# Altium integrated library airu-board.IntLib: 156 symbols (part 3 of 3)
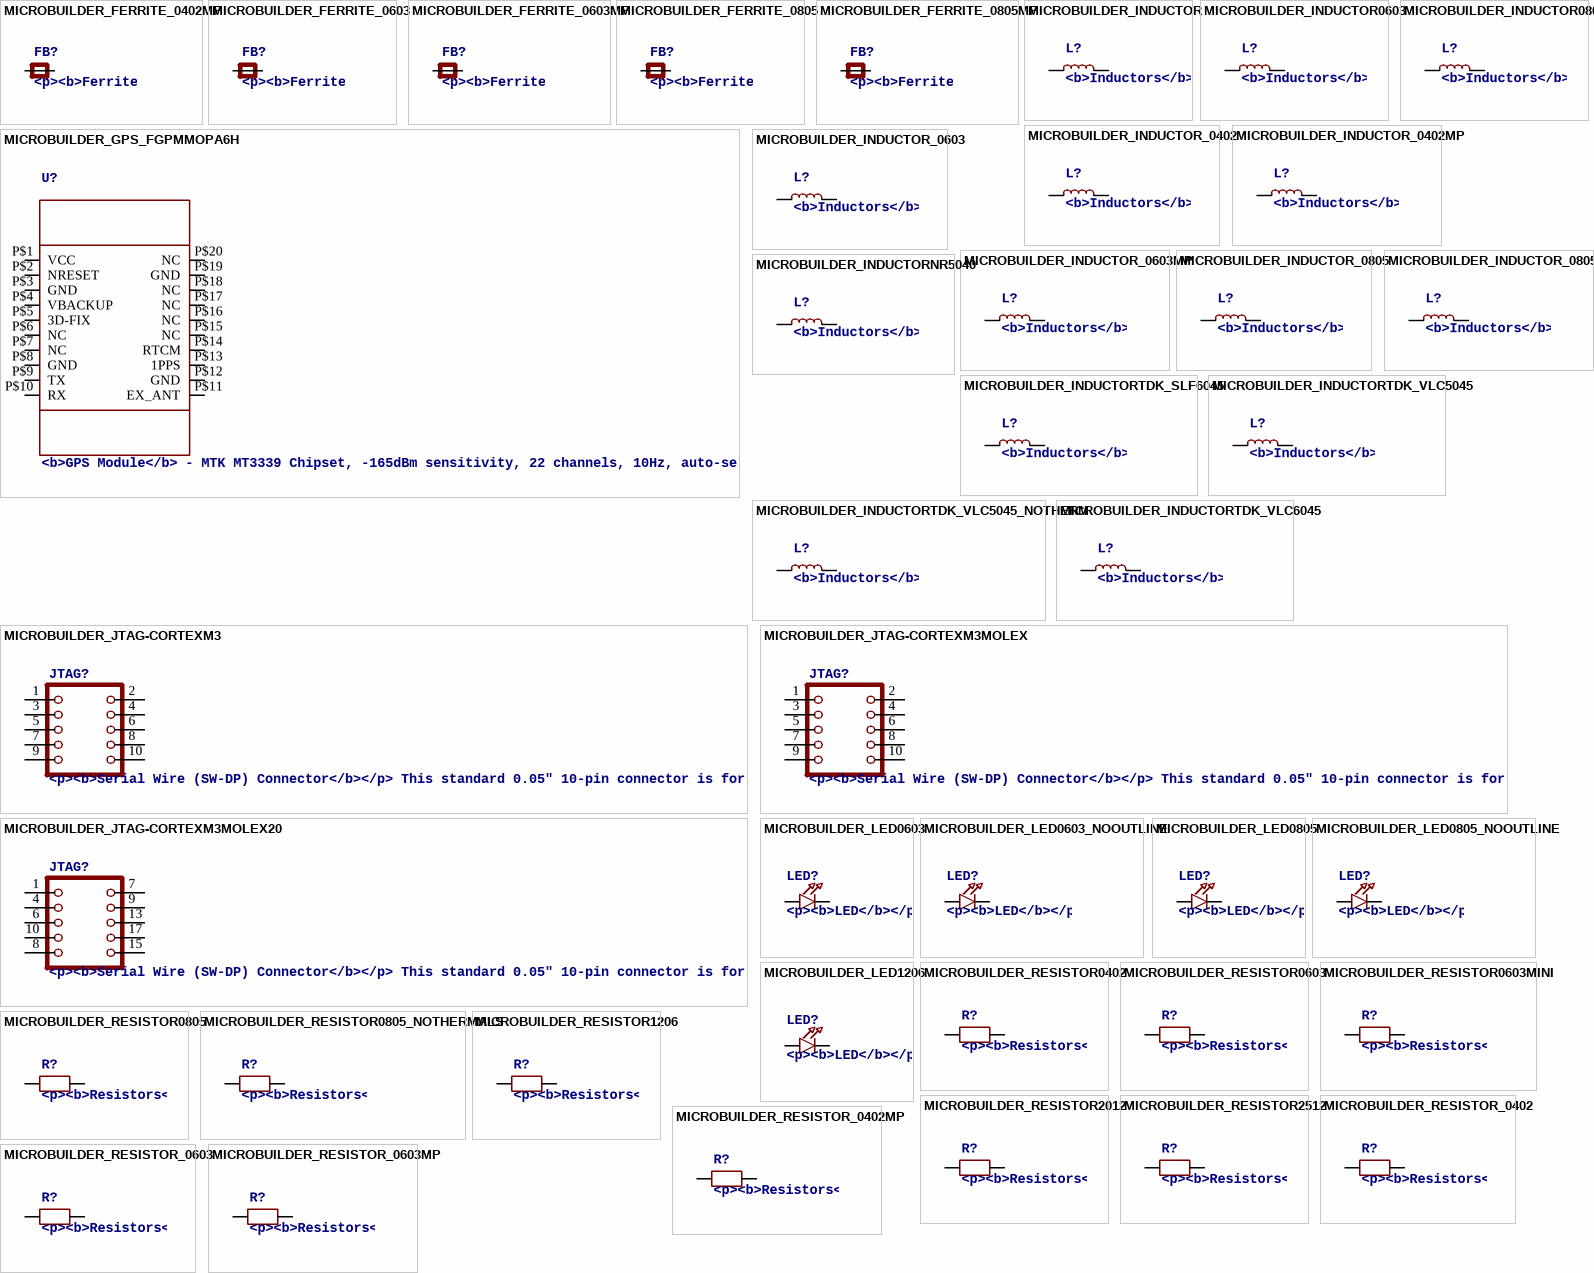
[diagram p7: symbols MICROBUILDER_FERRITE_0402MP to MICROBUILDER_RESISTOR_0603MP]

## MICROBUILDER_RESISTOR_0402MP
designator R?, comment <p><b>Resistors</b></p> / <b>0402</b> - 0402 Surface Mount Package / <ul> / <li>22 Ohm 1% 1/16W [Digikey: 311-22.0LRTR-ND]</li> / <li>33 Ohm 5% 1/16W</li> / <li>1.0K 5% 1/16W</li> / <li>1.5K 5% 1/16W</li> / <li>2.0K 1% 1/16W</li> / <li>10.0K 1% 1/16W [Digikey: 311-10.0KLRTR-ND]</li> / <li>10.0K 5% 1/16W [Digikey: RMCF0402JT10K0TR-ND]</li> / <li>12.1K 1% 1/16W [Digikey: 311-22.0LRTR-ND]</li> / <li>100.0K 5% 1/16W</li> / </ul> / <b>0603</b> - 0603 Surface Mount Package<br> / <ul> / <li>0 Ohm 1/10 Watt 1% Resistor</li> / <li>15 Ohm 1/10 Watt 1% Resistor</li> / <li>33 Ohm 1/10 Watt 1% Resistor</li> / <li>49.9 Ohm 1/10 Watt 1% Resistor</li> / <li>100 Ohm 1/10 Watt 1% Resistor</li> / <li>150 Ohm 1/10 Watt 1% Resistor</li> / <li>240 Ohm 1/10 Watt 1% Resistor</li> / <li>390 Ohm 1/10 Watt 1% Resistor</li> / <li>560 Ohm 1/10 Watt 1% Resistor</li> / <li>680 Ohm 1/10 Watt 1% Resistor</li> / <li>750 Ohm 1/10 Watt 1% Resistor</li> / <li>1.0K Ohm 1/10 Watt 1% Resistor</li> / <li>1.5K Ohm 1/10 Watt 1% Resistor</li> / <li>2.0K Ohm 1/10 Watt 1% Resistor</li> / <li>2.2K Ohm 1/10 Watt 1% Resistor</li> / <li>3.3K Ohm 1/10 Watt 1% Resistor</li> / <li>4.7K Ohm 1/10 Watt 1% Resistor</li> / <li>10.0K Ohm 1/10 Watt 1% Resistor</li> / <li>12.0K Ohm 1/10 Watt 1% Resistor</li> / <li>12.1K Ohm 1/10 Watt 1% Resistor</li> / <li>20.0K Ohm 1/10 Watt 1% Resistor</li> / <li>33.0K Ohm 1/10 Watt 1% Resistor</li> / <li>100.0K Ohm 1/10 Watt 1% Resistor</li> / </ul> / <b>0805</b> - 0805 Surface Mount Package / <ul> / <li>0 Ohm 1/8 Watt 1% Resistor</li> / <li>33 Ohm 1/8 Watt 1% Resistor</li> / <li>100 Ohm 1/8 Watt 1% Resistor</li> / <li>150 Ohm 1/8 Watt 1% Resistor</li> / <li>200 Ohm 1/8 Watt 1% Resistor</li> / <li>240 Ohm 1/8 Watt 1% Resistor</li> / <li>330 Ohm 1/8 Watt 1% Resistor</li> / <li>390 Ohm 1/8 Watt 1% Resistor</li> / <li>470 Ohm 1/8 Watt 1% Resistor</li> / <li>1.0K Ohm 1/8 Watt 1% Resistor</li> / <li>1.5K Ohm 1/8 Watt 1% Resistor</li> / <li>2.0K Ohm 1/8 Watt 1% Resistor</li> / <li>4.7K Ohm 1/8 Watt 1% Resistor</li> / <li>5.1K Ohm 1/8 Watt 1% Resistor</li> / <li>5.6K Ohm 1/8 Watt 1% Resistor</li> / <li>10.0K Ohm 1/8 Watt 1% Resistor</li> / <li>22.0K Ohm 1/8 Watt 1% Resistor</li> / <li>33.0K Ohm 1/8 Watt 1% Resistor</li> / <li>100K Ohm 1/8 Watt 1% Resistor</li> / </ul> / <b>1206</b> - 1206 Surface Mount Package<br/> / <br/> / <b>2012</b> - 2010 Surface Mount Package<br/> / <ul><li>0.11 Ohm 1/2 Watt 1% Resistor - Digikey: RHM.11UCT-ND</li></ul>
footprint MICROBUILDER__0402MP
pins: 1, 2

## MICROBUILDER_RESISTOR_0603
designator R?, comment <p><b>Resistors</b></p> / <b>0402</b> - 0402 Surface Mount Package / <ul> / <li>22 Ohm 1% 1/16W [Digikey: 311-22.0LRTR-ND]</li> / <li>33 Ohm 5% 1/16W</li> / <li>1.0K 5% 1/16W</li> / <li>1.5K 5% 1/16W</li> / <li>2.0K 1% 1/16W</li> / <li>10.0K 1% 1/16W [Digikey: 311-10.0KLRTR-ND]</li> / <li>10.0K 5% 1/16W [Digikey: RMCF0402JT10K0TR-ND]</li> / <li>12.1K 1% 1/16W [Digikey: 311-22.0LRTR-ND]</li> / <li>100.0K 5% 1/16W</li> / </ul> / <b>0603</b> - 0603 Surface Mount Package<br> / <ul> / <li>0 Ohm 1/10 Watt 1% Resistor</li> / <li>15 Ohm 1/10 Watt 1% Resistor</li> / <li>33 Ohm 1/10 Watt 1% Resistor</li> / <li>49.9 Ohm 1/10 Watt 1% Resistor</li> / <li>100 Ohm 1/10 Watt 1% Resistor</li> / <li>150 Ohm 1/10 Watt 1% Resistor</li> / <li>240 Ohm 1/10 Watt 1% Resistor</li> / <li>390 Ohm 1/10 Watt 1% Resistor</li> / <li>560 Ohm 1/10 Watt 1% Resistor</li> / <li>680 Ohm 1/10 Watt 1% Resistor</li> / <li>750 Ohm 1/10 Watt 1% Resistor</li> / <li>1.0K Ohm 1/10 Watt 1% Resistor</li> / <li>1.5K Ohm 1/10 Watt 1% Resistor</li> / <li>2.0K Ohm 1/10 Watt 1% Resistor</li> / <li>2.2K Ohm 1/10 Watt 1% Resistor</li> / <li>3.3K Ohm 1/10 Watt 1% Resistor</li> / <li>4.7K Ohm 1/10 Watt 1% Resistor</li> / <li>10.0K Ohm 1/10 Watt 1% Resistor</li> / <li>12.0K Ohm 1/10 Watt 1% Resistor</li> / <li>12.1K Ohm 1/10 Watt 1% Resistor</li> / <li>20.0K Ohm 1/10 Watt 1% Resistor</li> / <li>33.0K Ohm 1/10 Watt 1% Resistor</li> / <li>100.0K Ohm 1/10 Watt 1% Resistor</li> / </ul> / <b>0805</b> - 0805 Surface Mount Package / <ul> / <li>0 Ohm 1/8 Watt 1% Resistor</li> / <li>33 Ohm 1/8 Watt 1% Resistor</li> / <li>100 Ohm 1/8 Watt 1% Resistor</li> / <li>150 Ohm 1/8 Watt 1% Resistor</li> / <li>200 Ohm 1/8 Watt 1% Resistor</li> / <li>240 Ohm 1/8 Watt 1% Resistor</li> / <li>330 Ohm 1/8 Watt 1% Resistor</li> / <li>390 Ohm 1/8 Watt 1% Resistor</li> / <li>470 Ohm 1/8 Watt 1% Resistor</li> / <li>1.0K Ohm 1/8 Watt 1% Resistor</li> / <li>1.5K Ohm 1/8 Watt 1% Resistor</li> / <li>2.0K Ohm 1/8 Watt 1% Resistor</li> / <li>4.7K Ohm 1/8 Watt 1% Resistor</li> / <li>5.1K Ohm 1/8 Watt 1% Resistor</li> / <li>5.6K Ohm 1/8 Watt 1% Resistor</li> / <li>10.0K Ohm 1/8 Watt 1% Resistor</li> / <li>22.0K Ohm 1/8 Watt 1% Resistor</li> / <li>33.0K Ohm 1/8 Watt 1% Resistor</li> / <li>100K Ohm 1/8 Watt 1% Resistor</li> / </ul> / <b>1206</b> - 1206 Surface Mount Package<br/> / <br/> / <b>2012</b> - 2010 Surface Mount Package<br/> / <ul><li>0.11 Ohm 1/2 Watt 1% Resistor - Digikey: RHM.11UCT-ND</li></ul>
footprint MICROBUILDER__0603
pins: 1, 2

## MICROBUILDER_RESISTOR_0603MP
designator R?, comment <p><b>Resistors</b></p> / <b>0402</b> - 0402 Surface Mount Package / <ul> / <li>22 Ohm 1% 1/16W [Digikey: 311-22.0LRTR-ND]</li> / <li>33 Ohm 5% 1/16W</li> / <li>1.0K 5% 1/16W</li> / <li>1.5K 5% 1/16W</li> / <li>2.0K 1% 1/16W</li> / <li>10.0K 1% 1/16W [Digikey: 311-10.0KLRTR-ND]</li> / <li>10.0K 5% 1/16W [Digikey: RMCF0402JT10K0TR-ND]</li> / <li>12.1K 1% 1/16W [Digikey: 311-22.0LRTR-ND]</li> / <li>100.0K 5% 1/16W</li> / </ul> / <b>0603</b> - 0603 Surface Mount Package<br> / <ul> / <li>0 Ohm 1/10 Watt 1% Resistor</li> / <li>15 Ohm 1/10 Watt 1% Resistor</li> / <li>33 Ohm 1/10 Watt 1% Resistor</li> / <li>49.9 Ohm 1/10 Watt 1% Resistor</li> / <li>100 Ohm 1/10 Watt 1% Resistor</li> / <li>150 Ohm 1/10 Watt 1% Resistor</li> / <li>240 Ohm 1/10 Watt 1% Resistor</li> / <li>390 Ohm 1/10 Watt 1% Resistor</li> / <li>560 Ohm 1/10 Watt 1% Resistor</li> / <li>680 Ohm 1/10 Watt 1% Resistor</li> / <li>750 Ohm 1/10 Watt 1% Resistor</li> / <li>1.0K Ohm 1/10 Watt 1% Resistor</li> / <li>1.5K Ohm 1/10 Watt 1% Resistor</li> / <li>2.0K Ohm 1/10 Watt 1% Resistor</li> / <li>2.2K Ohm 1/10 Watt 1% Resistor</li> / <li>3.3K Ohm 1/10 Watt 1% Resistor</li> / <li>4.7K Ohm 1/10 Watt 1% Resistor</li> / <li>10.0K Ohm 1/10 Watt 1% Resistor</li> / <li>12.0K Ohm 1/10 Watt 1% Resistor</li> / <li>12.1K Ohm 1/10 Watt 1% Resistor</li> / <li>20.0K Ohm 1/10 Watt 1% Resistor</li> / <li>33.0K Ohm 1/10 Watt 1% Resistor</li> / <li>100.0K Ohm 1/10 Watt 1% Resistor</li> / </ul> / <b>0805</b> - 0805 Surface Mount Package / <ul> / <li>0 Ohm 1/8 Watt 1% Resistor</li> / <li>33 Ohm 1/8 Watt 1% Resistor</li> / <li>100 Ohm 1/8 Watt 1% Resistor</li> / <li>150 Ohm 1/8 Watt 1% Resistor</li> / <li>200 Ohm 1/8 Watt 1% Resistor</li> / <li>240 Ohm 1/8 Watt 1% Resistor</li> / <li>330 Ohm 1/8 Watt 1% Resistor</li> / <li>390 Ohm 1/8 Watt 1% Resistor</li> / <li>470 Ohm 1/8 Watt 1% Resistor</li> / <li>1.0K Ohm 1/8 Watt 1% Resistor</li> / <li>1.5K Ohm 1/8 Watt 1% Resistor</li> / <li>2.0K Ohm 1/8 Watt 1% Resistor</li> / <li>4.7K Ohm 1/8 Watt 1% Resistor</li> / <li>5.1K Ohm 1/8 Watt 1% Resistor</li> / <li>5.6K Ohm 1/8 Watt 1% Resistor</li> / <li>10.0K Ohm 1/8 Watt 1% Resistor</li> / <li>22.0K Ohm 1/8 Watt 1% Resistor</li> / <li>33.0K Ohm 1/8 Watt 1% Resistor</li> / <li>100K Ohm 1/8 Watt 1% Resistor</li> / </ul> / <b>1206</b> - 1206 Surface Mount Package<br/> / <br/> / <b>2012</b> - 2010 Surface Mount Package<br/> / <ul><li>0.11 Ohm 1/2 Watt 1% Resistor - Digikey: RHM.11UCT-ND</li></ul>
footprint MICROBUILDER__0603MP
pins: 1, 2

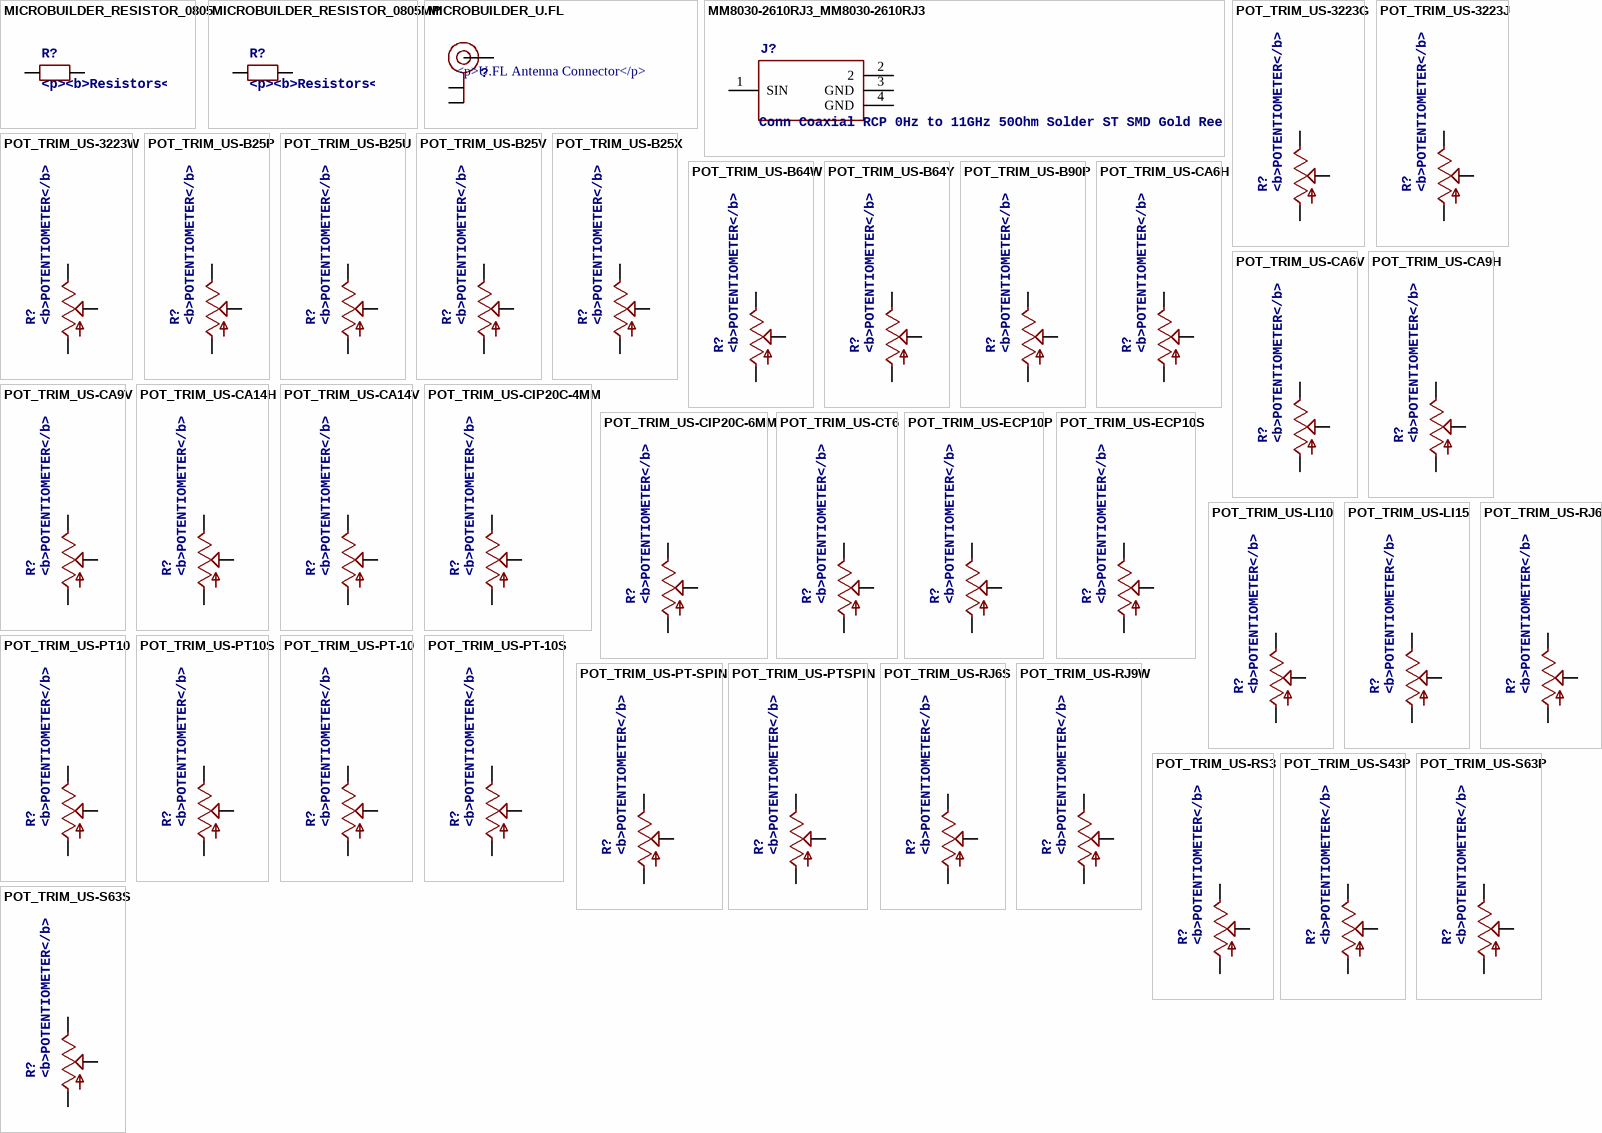
[diagram p3: symbols MICROBUILDER_RESISTOR_0805 to POT_TRIM_US-S63S]

## MICROBUILDER_RESISTOR_0805
designator R?, comment <p><b>Resistors</b></p> / <b>0402</b> - 0402 Surface Mount Package / <ul> / <li>22 Ohm 1% 1/16W [Digikey: 311-22.0LRTR-ND]</li> / <li>33 Ohm 5% 1/16W</li> / <li>1.0K 5% 1/16W</li> / <li>1.5K 5% 1/16W</li> / <li>2.0K 1% 1/16W</li> / <li>10.0K 1% 1/16W [Digikey: 311-10.0KLRTR-ND]</li> / <li>10.0K 5% 1/16W [Digikey: RMCF0402JT10K0TR-ND]</li> / <li>12.1K 1% 1/16W [Digikey: 311-22.0LRTR-ND]</li> / <li>100.0K 5% 1/16W</li> / </ul> / <b>0603</b> - 0603 Surface Mount Package<br> / <ul> / <li>0 Ohm 1/10 Watt 1% Resistor</li> / <li>15 Ohm 1/10 Watt 1% Resistor</li> / <li>33 Ohm 1/10 Watt 1% Resistor</li> / <li>49.9 Ohm 1/10 Watt 1% Resistor</li> / <li>100 Ohm 1/10 Watt 1% Resistor</li> / <li>150 Ohm 1/10 Watt 1% Resistor</li> / <li>240 Ohm 1/10 Watt 1% Resistor</li> / <li>390 Ohm 1/10 Watt 1% Resistor</li> / <li>560 Ohm 1/10 Watt 1% Resistor</li> / <li>680 Ohm 1/10 Watt 1% Resistor</li> / <li>750 Ohm 1/10 Watt 1% Resistor</li> / <li>1.0K Ohm 1/10 Watt 1% Resistor</li> / <li>1.5K Ohm 1/10 Watt 1% Resistor</li> / <li>2.0K Ohm 1/10 Watt 1% Resistor</li> / <li>2.2K Ohm 1/10 Watt 1% Resistor</li> / <li>3.3K Ohm 1/10 Watt 1% Resistor</li> / <li>4.7K Ohm 1/10 Watt 1% Resistor</li> / <li>10.0K Ohm 1/10 Watt 1% Resistor</li> / <li>12.0K Ohm 1/10 Watt 1% Resistor</li> / <li>12.1K Ohm 1/10 Watt 1% Resistor</li> / <li>20.0K Ohm 1/10 Watt 1% Resistor</li> / <li>33.0K Ohm 1/10 Watt 1% Resistor</li> / <li>100.0K Ohm 1/10 Watt 1% Resistor</li> / </ul> / <b>0805</b> - 0805 Surface Mount Package / <ul> / <li>0 Ohm 1/8 Watt 1% Resistor</li> / <li>33 Ohm 1/8 Watt 1% Resistor</li> / <li>100 Ohm 1/8 Watt 1% Resistor</li> / <li>150 Ohm 1/8 Watt 1% Resistor</li> / <li>200 Ohm 1/8 Watt 1% Resistor</li> / <li>240 Ohm 1/8 Watt 1% Resistor</li> / <li>330 Ohm 1/8 Watt 1% Resistor</li> / <li>390 Ohm 1/8 Watt 1% Resistor</li> / <li>470 Ohm 1/8 Watt 1% Resistor</li> / <li>1.0K Ohm 1/8 Watt 1% Resistor</li> / <li>1.5K Ohm 1/8 Watt 1% Resistor</li> / <li>2.0K Ohm 1/8 Watt 1% Resistor</li> / <li>4.7K Ohm 1/8 Watt 1% Resistor</li> / <li>5.1K Ohm 1/8 Watt 1% Resistor</li> / <li>5.6K Ohm 1/8 Watt 1% Resistor</li> / <li>10.0K Ohm 1/8 Watt 1% Resistor</li> / <li>22.0K Ohm 1/8 Watt 1% Resistor</li> / <li>33.0K Ohm 1/8 Watt 1% Resistor</li> / <li>100K Ohm 1/8 Watt 1% Resistor</li> / </ul> / <b>1206</b> - 1206 Surface Mount Package<br/> / <br/> / <b>2012</b> - 2010 Surface Mount Package<br/> / <ul><li>0.11 Ohm 1/2 Watt 1% Resistor - Digikey: RHM.11UCT-ND</li></ul>
footprint MICROBUILDER__0805
pins: 1, 2

## MICROBUILDER_RESISTOR_0805MP
designator R?, comment <p><b>Resistors</b></p> / <b>0402</b> - 0402 Surface Mount Package / <ul> / <li>22 Ohm 1% 1/16W [Digikey: 311-22.0LRTR-ND]</li> / <li>33 Ohm 5% 1/16W</li> / <li>1.0K 5% 1/16W</li> / <li>1.5K 5% 1/16W</li> / <li>2.0K 1% 1/16W</li> / <li>10.0K 1% 1/16W [Digikey: 311-10.0KLRTR-ND]</li> / <li>10.0K 5% 1/16W [Digikey: RMCF0402JT10K0TR-ND]</li> / <li>12.1K 1% 1/16W [Digikey: 311-22.0LRTR-ND]</li> / <li>100.0K 5% 1/16W</li> / </ul> / <b>0603</b> - 0603 Surface Mount Package<br> / <ul> / <li>0 Ohm 1/10 Watt 1% Resistor</li> / <li>15 Ohm 1/10 Watt 1% Resistor</li> / <li>33 Ohm 1/10 Watt 1% Resistor</li> / <li>49.9 Ohm 1/10 Watt 1% Resistor</li> / <li>100 Ohm 1/10 Watt 1% Resistor</li> / <li>150 Ohm 1/10 Watt 1% Resistor</li> / <li>240 Ohm 1/10 Watt 1% Resistor</li> / <li>390 Ohm 1/10 Watt 1% Resistor</li> / <li>560 Ohm 1/10 Watt 1% Resistor</li> / <li>680 Ohm 1/10 Watt 1% Resistor</li> / <li>750 Ohm 1/10 Watt 1% Resistor</li> / <li>1.0K Ohm 1/10 Watt 1% Resistor</li> / <li>1.5K Ohm 1/10 Watt 1% Resistor</li> / <li>2.0K Ohm 1/10 Watt 1% Resistor</li> / <li>2.2K Ohm 1/10 Watt 1% Resistor</li> / <li>3.3K Ohm 1/10 Watt 1% Resistor</li> / <li>4.7K Ohm 1/10 Watt 1% Resistor</li> / <li>10.0K Ohm 1/10 Watt 1% Resistor</li> / <li>12.0K Ohm 1/10 Watt 1% Resistor</li> / <li>12.1K Ohm 1/10 Watt 1% Resistor</li> / <li>20.0K Ohm 1/10 Watt 1% Resistor</li> / <li>33.0K Ohm 1/10 Watt 1% Resistor</li> / <li>100.0K Ohm 1/10 Watt 1% Resistor</li> / </ul> / <b>0805</b> - 0805 Surface Mount Package / <ul> / <li>0 Ohm 1/8 Watt 1% Resistor</li> / <li>33 Ohm 1/8 Watt 1% Resistor</li> / <li>100 Ohm 1/8 Watt 1% Resistor</li> / <li>150 Ohm 1/8 Watt 1% Resistor</li> / <li>200 Ohm 1/8 Watt 1% Resistor</li> / <li>240 Ohm 1/8 Watt 1% Resistor</li> / <li>330 Ohm 1/8 Watt 1% Resistor</li> / <li>390 Ohm 1/8 Watt 1% Resistor</li> / <li>470 Ohm 1/8 Watt 1% Resistor</li> / <li>1.0K Ohm 1/8 Watt 1% Resistor</li> / <li>1.5K Ohm 1/8 Watt 1% Resistor</li> / <li>2.0K Ohm 1/8 Watt 1% Resistor</li> / <li>4.7K Ohm 1/8 Watt 1% Resistor</li> / <li>5.1K Ohm 1/8 Watt 1% Resistor</li> / <li>5.6K Ohm 1/8 Watt 1% Resistor</li> / <li>10.0K Ohm 1/8 Watt 1% Resistor</li> / <li>22.0K Ohm 1/8 Watt 1% Resistor</li> / <li>33.0K Ohm 1/8 Watt 1% Resistor</li> / <li>100K Ohm 1/8 Watt 1% Resistor</li> / </ul> / <b>1206</b> - 1206 Surface Mount Package<br/> / <br/> / <b>2012</b> - 2010 Surface Mount Package<br/> / <ul><li>0.11 Ohm 1/2 Watt 1% Resistor - Digikey: RHM.11UCT-ND</li></ul>
footprint MICROBUILDER__0805MP
pins: 1, 2

## MICROBUILDER_U.FL
designator ?, comment <p>U.FL Antenna Connector</p>
footprint MICROBUILDER_U.FL
pins: 1 GND, 2 GND, 3 SIGNAL

## MM8030-2610RJ3_MM8030-2610RJ3
designator J?, comment Conn Coaxial RCP 0Hz to 11GHz 50Ohm Solder ST SMD Gold Reel
footprint MM8030-2610RJ3_MURATA_MM8030-2610RJ3
pins: 1 SIN, 2, 3 GND (power), 4 GND (power)

## POT_TRIM_US-3223G
designator R?, comment <b>POTENTIOMETER</b>
footprint POT_3223G
pins: 1 A, 2 S, 3 E

## POT_TRIM_US-3223J
designator R?, comment <b>POTENTIOMETER</b>
footprint POT_3223J
pins: 1 A, 2 S, 3 E

## POT_TRIM_US-3223W
designator R?, comment <b>POTENTIOMETER</b>
footprint POT_3223W
pins: 1 A, 2 S, 3 E

## POT_TRIM_US-B25P
designator R?, comment <b>POTENTIOMETER</b>
footprint POT_B25P
pins: A, E, S

## POT_TRIM_US-B25U
designator R?, comment <b>POTENTIOMETER</b>
footprint POT_B25U
pins: A, E, S

## POT_TRIM_US-B25V
designator R?, comment <b>POTENTIOMETER</b>
footprint POT_B25V
pins: A, E, S

## POT_TRIM_US-B25X
designator R?, comment <b>POTENTIOMETER</b>
footprint POT_B25X
pins: A, E, S

## POT_TRIM_US-B64W
designator R?, comment <b>POTENTIOMETER</b>
footprint POT_B64W
pins: A, E, S

## POT_TRIM_US-B64Y
designator R?, comment <b>POTENTIOMETER</b>
footprint POT_B64Y
pins: A, E, S

## POT_TRIM_US-B90P
designator R?, comment <b>POTENTIOMETER</b>
footprint POT_SP19L
pins: A, E, S

## POT_TRIM_US-CA6H
designator R?, comment <b>POTENTIOMETER</b>
footprint POT_CA6H
pins: A, E, S

## POT_TRIM_US-CA6V
designator R?, comment <b>POTENTIOMETER</b>
footprint POT_CA6V
pins: A, E, S

## POT_TRIM_US-CA9H
designator R?, comment <b>POTENTIOMETER</b>
footprint POT_CA9H
pins: A, E, S

## POT_TRIM_US-CA9V
designator R?, comment <b>POTENTIOMETER</b>
footprint POT_CA9V
pins: A, E, S

## POT_TRIM_US-CA14H
designator R?, comment <b>POTENTIOMETER</b>
footprint POT_CA14H
pins: A, E, S

## POT_TRIM_US-CA14V
designator R?, comment <b>POTENTIOMETER</b>
footprint POT_CA14V
pins: A, E, S

## POT_TRIM_US-CIP20C-4MM
designator R?, comment <b>POTENTIOMETER</b>
footprint POT_CIP20C-4MM
pins: A, E, S

## POT_TRIM_US-CIP20C-6MM
designator R?, comment <b>POTENTIOMETER</b>
footprint POT_CIP20C-6MM
pins: A, E, S

## POT_TRIM_US-CT6
designator R?, comment <b>POTENTIOMETER</b>
footprint POT_CT6
pins: A, E, S

## POT_TRIM_US-ECP10P
designator R?, comment <b>POTENTIOMETER</b>
footprint POT_ECP10P
pins: A, E, S

## POT_TRIM_US-ECP10S
designator R?, comment <b>POTENTIOMETER</b>
footprint POT_ECP10S
pins: A, E, S

## POT_TRIM_US-LI10
designator R?, comment <b>POTENTIOMETER</b>
footprint POT_LI10
pins: A, E, S

## POT_TRIM_US-LI15
designator R?, comment <b>POTENTIOMETER</b>
footprint POT_LI15
pins: A, E, S

## POT_TRIM_US-PT10
designator R?, comment <b>POTENTIOMETER</b>
footprint POT_PT-10
pins: A, E, S

## POT_TRIM_US-PT10S
designator R?, comment <b>POTENTIOMETER</b>
footprint POT_PT-10S
pins: A, E, S

## POT_TRIM_US-PT-10
designator R?, comment <b>POTENTIOMETER</b>
footprint POT_PT-10
pins: A, E, S

## POT_TRIM_US-PT-10S
designator R?, comment <b>POTENTIOMETER</b>
footprint POT_PT-10S
pins: A, E, S

## POT_TRIM_US-PT-SPIN
designator R?, comment <b>POTENTIOMETER</b>
footprint POT_PT-SPIN
pins: A, E, S

## POT_TRIM_US-PTSPIN
designator R?, comment <b>POTENTIOMETER</b>
footprint POT_PT-SPIN
pins: A, E, S

## POT_TRIM_US-RJ6
designator R?, comment <b>POTENTIOMETER</b>
footprint POT_RJ6
pins: A, E, S

## POT_TRIM_US-RJ6S
designator R?, comment <b>POTENTIOMETER</b>
footprint POT_RJ6S
pins: A, E, S

## POT_TRIM_US-RJ9W
designator R?, comment <b>POTENTIOMETER</b>
footprint POT_RJ9W
pins: A, E, S

## POT_TRIM_US-RS3
designator R?, comment <b>POTENTIOMETER</b>
footprint POT_RS3
pins: A, E, S

## POT_TRIM_US-S43P
designator R?, comment <b>POTENTIOMETER</b>
footprint POT_SP19L
pins: A, E, S

## POT_TRIM_US-S63P
designator R?, comment <b>POTENTIOMETER</b>
footprint POT_S63P
pins: A, E, S

## POT_TRIM_US-S63S
designator R?, comment <b>POTENTIOMETER</b>
footprint POT_S63S
pins: A, E, S

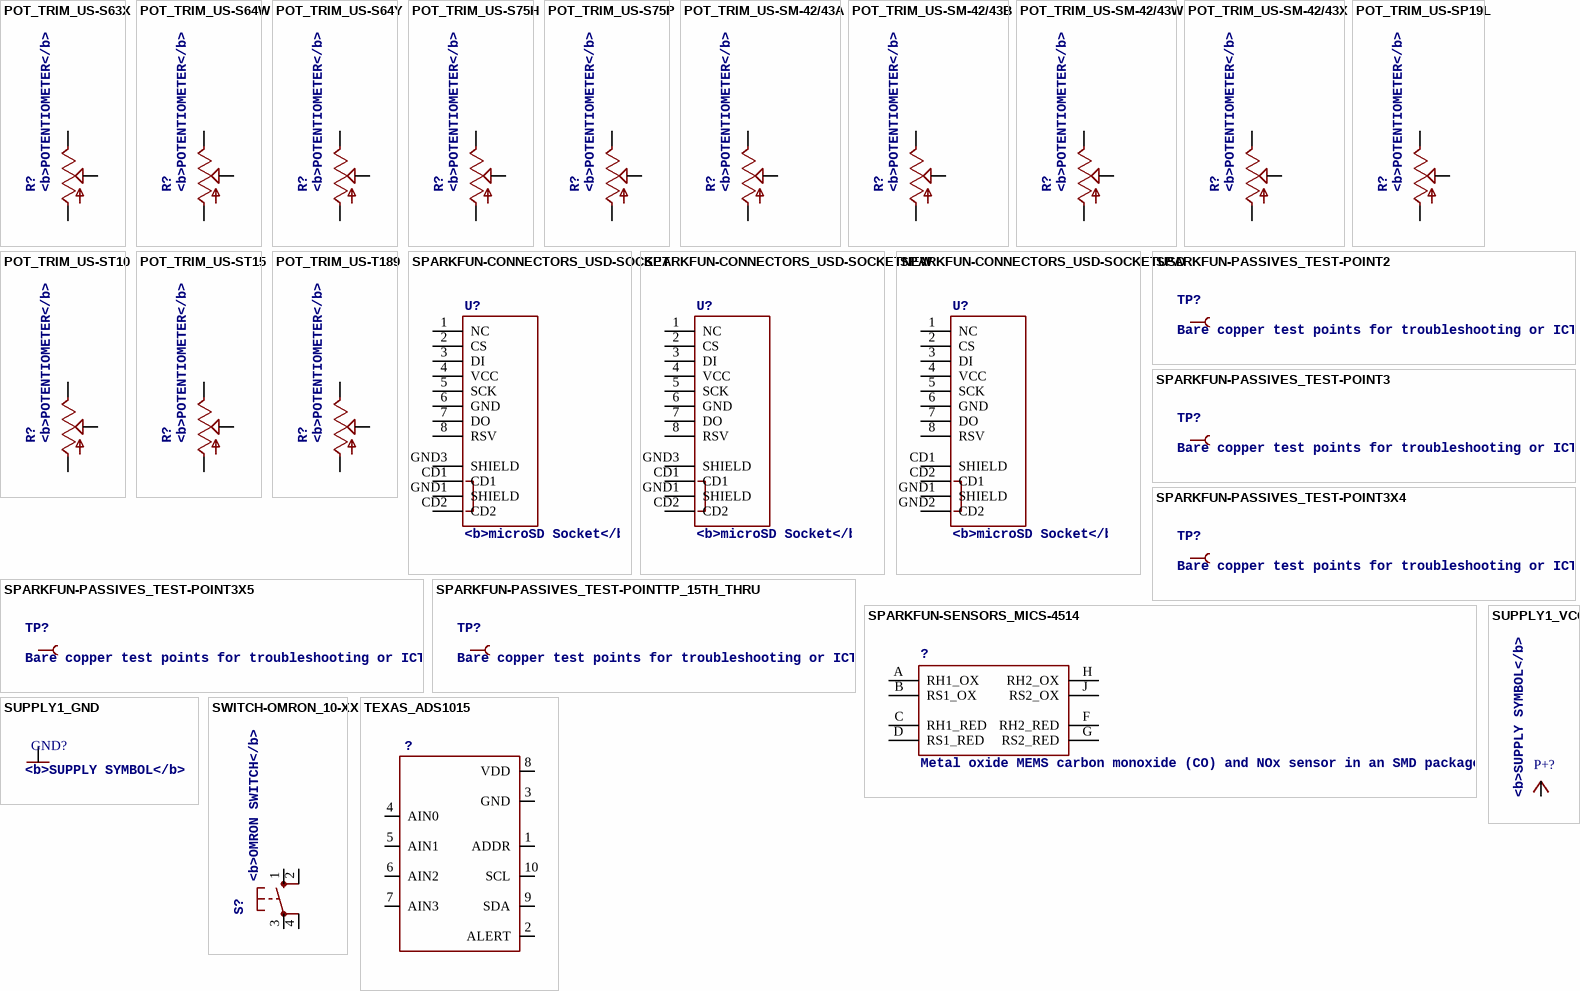
[diagram p4: symbols POT_TRIM_US-S63X to TEXAS_ADS1015]

## POT_TRIM_US-S63X
designator R?, comment <b>POTENTIOMETER</b>
footprint POT_S63X
pins: A, E, S

## POT_TRIM_US-S64W
designator R?, comment <b>POTENTIOMETER</b>
footprint POT_S64W
pins: A, E, S

## POT_TRIM_US-S64Y
designator R?, comment <b>POTENTIOMETER</b>
footprint POT_S64Y
pins: A, E, S

## POT_TRIM_US-S75H
designator R?, comment <b>POTENTIOMETER</b>
footprint POT_S75H
pins: A, E, S

## POT_TRIM_US-S75P
designator R?, comment <b>POTENTIOMETER</b>
footprint POT_S75P
pins: A, E, S

## POT_TRIM_US-SM-42/43A
designator R?, comment <b>POTENTIOMETER</b>
footprint POT_SM-42/43A
pins: 1 A, 2 S, 3 E

## POT_TRIM_US-SM-42/43B
designator R?, comment <b>POTENTIOMETER</b>
footprint POT_SM-42/43B
pins: 1 A, 2 S, 3 E

## POT_TRIM_US-SM-42/43W
designator R?, comment <b>POTENTIOMETER</b>
footprint POT_SM-42/43W
pins: 1 A, 2 S, 3 E

## POT_TRIM_US-SM-42/43X
designator R?, comment <b>POTENTIOMETER</b>
footprint POT_SM-42/43X
pins: 1 A, 2 S, 3 E

## POT_TRIM_US-SP19L
designator R?, comment <b>POTENTIOMETER</b>
footprint POT_SP19L
pins: A, E, S

## POT_TRIM_US-ST10
designator R?, comment <b>POTENTIOMETER</b>
footprint POT_ST10
pins: A, E, S

## POT_TRIM_US-ST15
designator R?, comment <b>POTENTIOMETER</b>
footprint POT_ST15
pins: A, E, S

## POT_TRIM_US-T189
designator R?, comment <b>POTENTIOMETER</b>
footprint POT_SP19LKN
pins: A, E, S

## SPARKFUN-CONNECTORS_USD-SOCKET
designator U?, comment <b>microSD Socket</b> / Push-push type uSD socket. Schematic element and footprint production proven. Spark Fun Electronics SKU : PRT-00127. tDoc lines correctly indicate media card edge positions when inserting (unlocked, locked, depressed). / NOTE: CD1 and CD2 are connected internally
PROD_ID: CONN-07820
footprint SPARKFUN-CONNECTORS_MICROSD_1:1
pins: 1 NC, 2 CS, 3 DI, 4 VCC, 5 SCK, 6 GND, 7 DO, 8 RSV, CD1, CD2, GND1 SHIELD, GND3 SHIELD

## SPARKFUN-CONNECTORS_USD-SOCKETNEW
designator U?, comment <b>microSD Socket</b> / Push-push type uSD socket. Schematic element and footprint production proven. Spark Fun Electronics SKU : PRT-00127. tDoc lines correctly indicate media card edge positions when inserting (unlocked, locked, depressed). / NOTE: CD1 and CD2 are connected internally
PROD_ID: CONN-07820
footprint SPARKFUN-CONNECTORS_MICRO-SD-SOCKET-PP
pins: 1 NC, 2 CS, 3 DI, 4 VCC, 5 SCK, 6 GND, 7 DO, 8 RSV, CD1, CD2, GND1 SHIELD, GND3 SHIELD

## SPARKFUN-CONNECTORS_USD-SOCKETUSD
designator U?, comment <b>microSD Socket</b> / Push-push type uSD socket. Schematic element and footprint production proven. Spark Fun Electronics SKU : PRT-00127. tDoc lines correctly indicate media card edge positions when inserting (unlocked, locked, depressed). / NOTE: CD1 and CD2 are connected internally
footprint SPARKFUN-CONNECTORS_USD-SOCKET-PP
pins: 1 NC, 2 CS, 3 DI, 4 VCC, 5 SCK, 6 GND, 7 DO, 8 RSV, CD1 SHIELD, CD2 CD1, GND1 SHIELD, GND2 CD2

## SPARKFUN-PASSIVES_TEST-POINT2
designator TP?, comment Bare copper test points for troubleshooting or ICT
footprint SPARKFUN-PASSIVES_PAD.02X.02
pins: P$1 1

## SPARKFUN-PASSIVES_TEST-POINT3
designator TP?, comment Bare copper test points for troubleshooting or ICT
footprint SPARKFUN-PASSIVES_PAD.03X.03
pins: P$1 1

## SPARKFUN-PASSIVES_TEST-POINT3X4
designator TP?, comment Bare copper test points for troubleshooting or ICT
footprint SPARKFUN-PASSIVES_PAD.03X.04
pins: P$1 1

## SPARKFUN-PASSIVES_TEST-POINT3X5
designator TP?, comment Bare copper test points for troubleshooting or ICT
footprint SPARKFUN-PASSIVES_PAD.03X.05
pins: P$1 1

## SPARKFUN-PASSIVES_TEST-POINTTP_15TH_THRU
designator TP?, comment Bare copper test points for troubleshooting or ICT
footprint SPARKFUN-PASSIVES_TP_15TH
pins: P$1 1

## SPARKFUN-SENSORS_MICS-4514
designator ?, comment Metal oxide MEMS carbon monoxide (CO) and NOx sensor in an SMD package.
PROD_ID: COMP-12310
footprint SPARKFUN-SENSORS_MICS_10-SMD
pins: A RH1_OX, B RS1_OX, C RH1_RED, D RS1_RED, F RH2_RED, G RS2_RED, H RH2_OX, J RS2_OX

## SUPPLY1_GND
designator GND?, comment <b>SUPPLY SYMBOL</b>
pins: GND (oe)

## SUPPLY1_VCC
designator P+?, comment <b>SUPPLY SYMBOL</b>
pins: VCC (oe)

## SWITCH-OMRON_10-XX
designator S?, comment <b>OMRON SWITCH</b>
MPN: B3F-1000; OC_FARNELL: 176432; OC_NEWARK: 36M3542
footprint SWITCH-OMRON_B3F-10XX
pins: 1 S, 2 S1, 3 P, 4 P1

## TEXAS_ADS1015
designator ?
footprint TEXAS_S-PDSO-G10
pins: 1 ADDR, 2 ALERT, 3 GND (power), 4 AIN0, 5 AIN1, 6 AIN2, 7 AIN3, 8 VDD (power), 9 SDA, 10 SCL

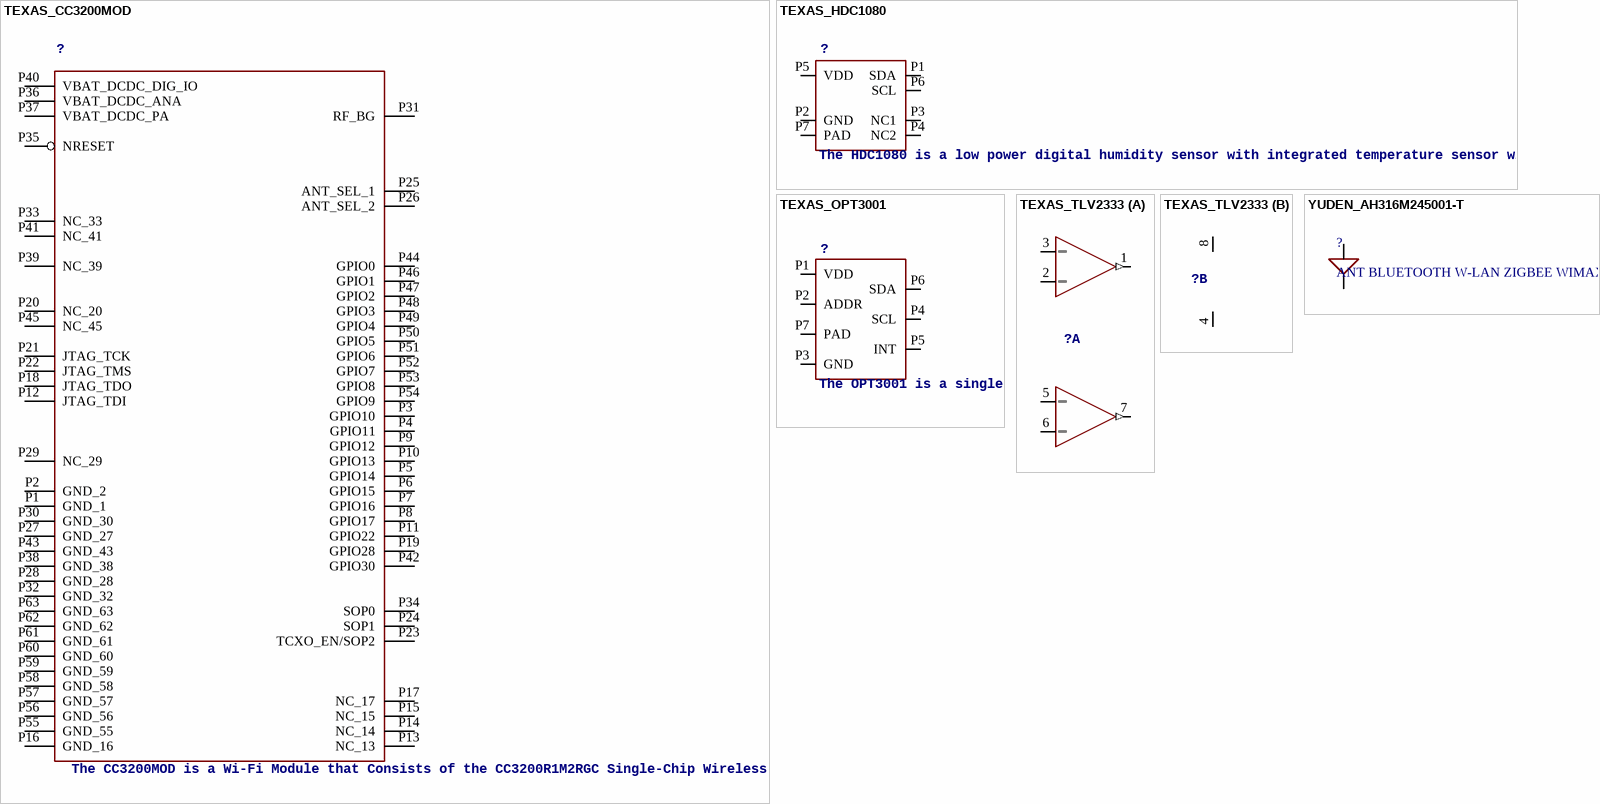
[diagram p5: symbols TEXAS_CC3200MOD to YUDEN_AH316M245001-T]

## TEXAS_CC3200MOD
designator ?, comment The CC3200MOD is a Wi-Fi Module that Consists of the CC3200R1M2RGC Single-Chip Wireless MCU. This Fully Integrated Module Includes all Required Clocks, SPI Flash, and Passives. / More information can be found at: http://www.ti.com/product/CC3200MOD/description.
footprint TEXAS_CC3200MOD
pins: P1 GND_1, P2 GND_2, P3 GPIO10, P4 GPIO11, P5 GPIO14, P6 GPIO15, P7 GPIO16, P8 GPIO17, P9 GPIO12, P10 GPIO13, P11 GPIO22, P12 JTAG_TDI, P13 NC_13, P14 NC_14, P15 NC_15, P16 GND_16, P17 NC_17, P18 JTAG_TDO, P19 GPIO28, P20 NC_20, P21 JTAG_TCK, P22 JTAG_TMS, P23 TCXO_EN/SOP2, P24 SOP1, P25 ANT_SEL_1, P26 ANT_SEL_2, P27 GND_27, P28 GND_28, P29 NC_29, P30 GND_30, P31 RF_BG, P32 GND_32, P33 NC_33, P34 SOP0, P35 NRESET, P36 VBAT_DCDC_ANA (power), P37 VBAT_DCDC_PA (power), P38 GND_38, P39 NC_39, P40 VBAT_DCDC_DIG_IO (power), P41 NC_41, P42 GPIO30, P43 GND_43, P44 GPIO0, P45 NC_45, P46 GPIO1, P47 GPIO2, P48 GPIO3, P49 GPIO4, P50 GPIO5, P51 GPIO6, P52 GPIO7, P53 GPIO8, P54 GPIO9, P55 GND_55, P56 GND_56, P57 GND_57, P58 GND_58, P59 GND_59, P60 GND_60, P61 GND_61, P62 GND_62, P63 GND_63

## TEXAS_HDC1080
designator ?, comment The HDC1080 is a low power digital humidity sensor with integrated temperature sensor with excellent measurement accuracy . It operates over a wide supply range, and is a low cost, low power alternative to competitive solutions in a wide range of common applications. The humidity and temperature sensors are factory calibrated.
footprint TEXAS_WSON
pins: P1 SDA, P2 GND (power), P3 NC1, P4 NC2, P5 VDD (power), P6 SCL, P7 PAD (power)

## TEXAS_OPT3001
designator ?, comment The OPT3001 is a single-chip lux meter, measuring the intensity of light as visible by the human eye.
footprint TEXAS_USON
pins: P1 VDD (power), P2 ADDR, P3 GND (power), P4 SCL, P5 INT, P6 SDA, P7 PAD (power)

## TEXAS_TLV2333
designator ?
footprint TEXAS_DGK_S-PDSO-G8
part A pins: 1 OUT (out), 2 -, 3 +, 5 +1, 6 -1, 7 OUT1 (out)
part B pins: 4 V- (power), 8 V+ (power)

## YUDEN_AH316M245001-T
designator ?, comment ANT BLUETOOTH W-LAN ZIGBEE WIMAX
footprint YUDEN_AH316M
pins: P$1, P$2 (power)